# Altium schematic symbol library EPS.SchLib: 12 symbols
Pins are listed as number, name and electrical type; pins without a type are passive.

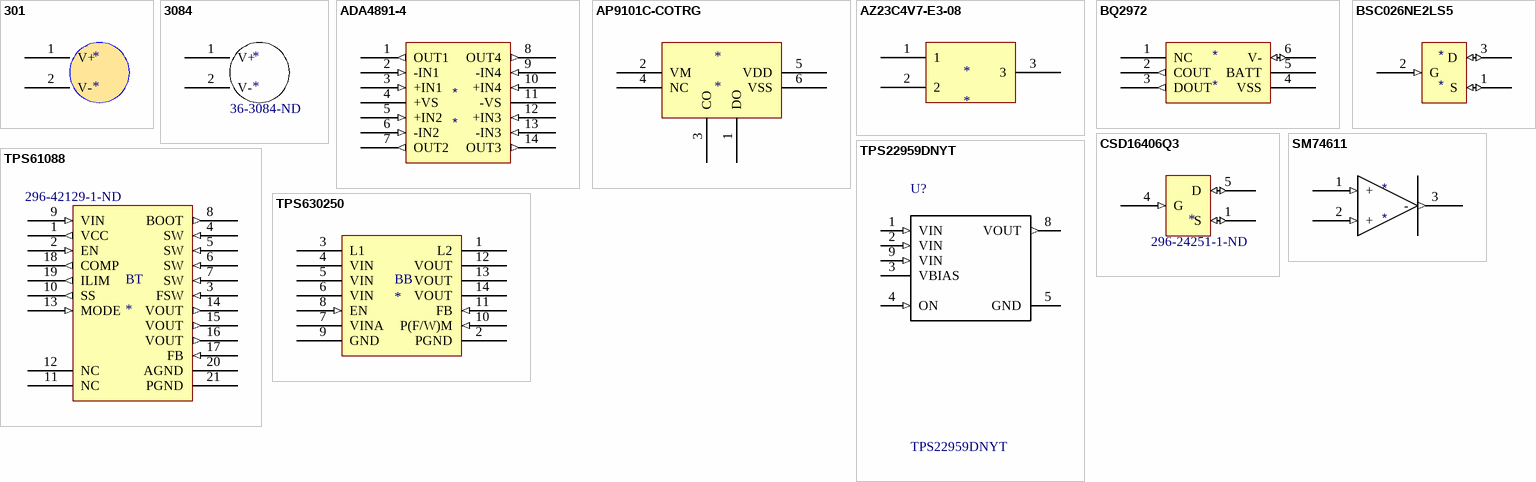
[diagram p0: symbols 301 to TPS630250]

## 301
designator *
footprint 301
pins: 1 V+, 2 V-

## 3084
designator *  Supplier Part Number 1: 36-3084-ND
CR2330 Battery Holder; Manufacturer: Keystone Electronics; Manufacturer Part Number: 3084; Number of Batteries: 2; Number of Cells: 1; Supplier 1: Digi-Key; Stock 1: 658; Pricing 1: 1=0.62, 10=0.523, 50=0.4586, 250=0.39796, 500=0.391, 1000=0.34946, 2500=0.31916, 5000=0.29492 (USD); Mount: Surface Mount,PCB; Case/Package: SMD/SMT; Package Quantity: 100; Termination: SMD/SMT; Lead Free: Lead Free; REACH SVHC: No SVHC; ComponentLink1URL: http://media.digikey.com/pdf/Data%20Sheets/Keystone%20Electronics%20PDFs/Lithium_Coin_Cell_Retainers_SMT.pdf?src-supplier=Digi-Key; ComponentLink1Description: http://media.digikey.com/pdf/Data%20Sheets/Keystone%20Electronics%20PDFs/Lithium_Coin_Cell_Retainers_SMT.pdf?src-supplier=Digi-Key
footprint 3084 (CR2330 Battery Holder)
pins: 1 V+, 2 V-

## ADA4891-4
designator *
Op-amps
footprint SOP65P640X120-14N (SOP + Pitch P + Lead Span Nominal X Height - #Pins)
pins: 1 OUT1 (out), 2 -IN1 (in), 3 +IN1 (in), 4 +VS (power), 5 +IN2 (in), 6 -IN2 (in), 7 OUT2 (out), 8 OUT4 (out), 9 -IN4 (in), 10 +IN4 (in), 11 -VS (power), 12 +IN3 (in), 13 -IN3 (in), 14 OUT3 (out)

## AP9101C-COTRG
designator *
Battery Protection IC
footprint SOT-26
pins: 1 DO, 2 VM, 3 CO, 4 NC, 5 VDD, 6 VSS

## AZ23C4V7-E3-08
designator *
300mW zener diode
footprint AZ23C4V7-E3-08 (300mW zener diode)
pins: 1, 2, 3

## BQ2972
designator *
Battery protection
footprint SON50P150X150X80-6N
pins: 1 NC, 2 COUT (out), 3 DOUT (out), 4 VSS (power), 5 BATT (power), 6 V- (io)

## BSC026NE2LS5
designator *
MOSFET
footprint INF-PG-TDSON-8-1_V (TDSON, 8-Leads, Body 6.15x5.15mm, Pitch 1.27mm)
pins: 1 S (io), 2 G (in), 3 D (io)

## CSD16406Q3
designator ?  Supplier Part Number 1: 296-24251-1-ND
Power MOSFET; Manufacturer: Texas Instruments; Manufacturer Part Number: CSD16406Q3; Rise Time: 12.9ns; Rds On Max: 5.3mR; Input Capacitance: 1.1nF; Nominal Vgs: 1.7V; Dual Supply Voltage: 25V; Continuous Drain Current (ID): 60A; Max Power Dissipation: 2.7W; Fall Time: 4.8ns; Turn-Off Delay Time: 8.5ns; Gate to Source Voltage (Vgs): 16V; Turn-On Delay Time: 7.3ns; Number of Elements: 1; Element Configuration: Single; Supplier 1: Digi-Key; Stock 1: 16574; Pricing 1: 1=1.1, 10=0.981, 100=0.7652, 500=0.63212, 1000=0.49904 (USD); Mount: Surface Mount; Case/Package: QFN; Number of Pins: 8; Contact Plating: Tin,Matte; Min Operating Temperature: -55°C; Max Operating Temperature: 150°C; Packaging: Tape and Reel; Package Quantity: 1; Drain to Source Voltage (Vdss): 25V; Drain to Source Breakdown Voltage: 25V; Power Dissipation: 2.7W; Termination: SMD/SMT; Threshold Voltage: 1.7V; Radiation Hardening: No; REACH SVHC: No SVHC; Lead Free: Contains Lead; ComponentLink1URL: http://www.ti.com/general/docs/lit/getliterature.tsp?genericPartNumber=CSD16406Q3&&fileType=pdf&src-supplier=Avnet; ComponentLink1Description: http://www.ti.com/general/docs/lit/getliterature.tsp?genericPartNumber=CSD16406Q3&&fileType=pdf&src-supplier=Avnet; ComponentLink2URL: http://www.ti.com/lit/ds/symlink/csd16406q3.pdf?src-supplier=Digi-Key; ComponentLink2Description: http://www.ti.com/lit/ds/symlink/csd16406q3.pdf?src-supplier=Digi-Key; ComponentLink3URL: http://www.mouser.com/ds/2/405/slps202a-128073.pdf?src-supplier=Mouser; ComponentLink3Description: http://www.mouser.com/ds/2/405/slps202a-128073.pdf?src-supplier=Mouser; ComponentLink4URL: http://www.farnell.com/datasheets/483980.pdf?src-supplier=Farnell; ComponentLink4Description: http://www.farnell.com/datasheets/483980.pdf?src-supplier=Farnell; ComponentLink5URL: http://www.ti.com/general/docs/lit/getliterature.tsp?genericPartNumber=CSD16406Q3&amp;&amp;fileType=pdf&src-supplier=Farnell; ComponentLink5Description: http://www.ti.com/general/docs/lit/getliterature.tsp?genericPartNumber=CSD16406Q3&amp;&amp;fileType=pdf&src-supplier=Farnell; ComponentLink6URL: http://www.farnell.com/simulation/1744921.zip?src-supplier=Element14; ComponentLink6Description: http://www.farnell.com/simulation/1744921.zip?src-supplier=Element14
footprint CSD16406Q3 (Power MOSFET)
pins: 1 S (io), 4 G (in), 5 D (io)

## SM74611
designator *
PV Diode
footprint TO254P1435X464-3N
pins: 1 + (in), 2 + (in), 3 - (out)

## TPS22959DNYT
designator U?
5.5V, 15A, 4.4mÎ© Load Switch with Quick Output Discharge 8-WSON -40 to 85; MF: Texas Instruments; Package: WSON-8 Texas Instruments; Digi-Key_Part_Number: 296-47872-1-ND; Digi-Key_Purchase_URL: https://www.digikey.ca/product-detail/en/texas-instruments/TPS22959DNYT/296-47872-1-ND/8133221?utm_source=snapeda&utm_medium=aggregator&utm_campaign=symbol; SnapEDA_Link: https://www.snapeda.com/parts/TPS22959DNYT/Texas%20Instruments/view-part/?ref=snap; MP: TPS22959DNYT; Value: *
footprint TPS22959DNYT
pins: 1 VIN (in), 2 VIN (in), 3 VBIAS (power), 4 ON (in), 5 GND (power), 8 VOUT (out), 9 VIN (in)

## TPS61088
designator BT  Supplier Part Number 1: 296-42129-1-ND
Boost converter; Supplier 1: Digi-Key
footprint QFN50P450X350X100-21N (Footprint not found)
pins: 1 VCC (out) "Output of the internal regulator. A ceramic capacitor of more than 1.0 µF is required between this pin and ground.", 2 EN (in), 3 FSW (in), 4 SW (in), 5 SW (in), 6 SW (in), 7 SW (in), 8 BOOT (out), 9 VIN (in), 10 SS (out), 11 NC, 12 NC, 13 MODE (in), 14 VOUT (out), 15 VOUT (out), 16 VOUT (out), 17 FB (in), 18 COMP (out), 19 ILIM (out), 20 AGND (power), 21 PGND (power)

## TPS630250
designator BB
Buck-boost converter
footprint RNC0014A
pins: 1 L2 (power), 2 PGND (power), 3 L1 (power), 4 VIN (power), 5 VIN (power), 6 VIN (power), 7 VINA (power), 8 EN (in), 9 GND (power), 10 P(F/W)M (in), 11 FB (in), 12 VOUT, 13 VOUT, 14 VOUT